# EAGLE library part MAX5056 (library ic)
MAX5056: Dual MOSFET driver (Maxim) 15V, 4A, 20ns delay
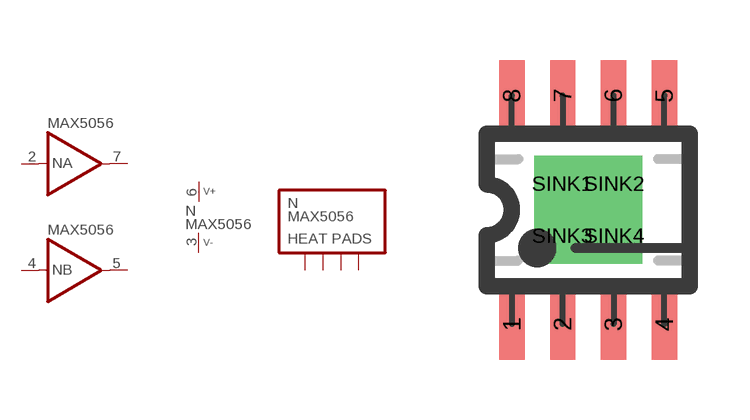
[diagram p95: symbol with the pads of SO08-EP; footprint SO08-EP]

Designator prefix N; gates A=BUF_1 B=BUF_1 P=V+- S=SINK04

## MAX5056  [SO08-EP]
2  A:IN  in
3  P:V-  pwr
4  B:IN  in
5  B:OUT  out
6  P:V+  pwr
7  A:OUT  out
SINK1  S:1
SINK2  S:2
SINK3  S:3
SINK4  S:4

## Footprint SO08-EP (pad centres in mm)
SO-8, SMD SOIC IC package, 8 pins, exposed paddle
smd 0.635 x 1.778: 1 -1.905,-2.857; 2 -0.635,-2.857; 3 0.635,-2.857; 4 1.905,-2.857; 5 1.905,2.857; 6 0.635,2.857; 7 -0.635,2.857; 8 -1.905,2.857
drill 0.813 pad 1.397 square: SINK1 -0.65,0.65; SINK2 0.65,0.65; SINK3 -0.65,-0.65; SINK4 0.65,-0.65